# Altium schematic symbol library Hole.SchLib: 1 symbol
Pins are listed as number, name and electrical type; pins without a type are passive.

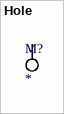
[diagram p0: symbol Hole]

## Hole
designator M?  (no BOM)
pins: 1